# EAGLE library part MEM2051-00-195-00-A (library CONNECTORs)
Memory Socket, MEM2051 Series, Micro SD, 8 Contacts, Phosphor Bronze, Gold Plated Contacts
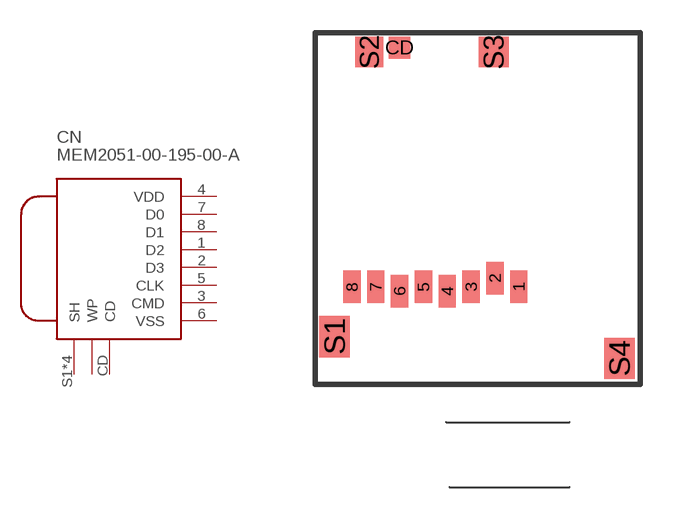
[diagram p28: symbol with the pads of MEM2051-00-195-00-A; footprint MEM2051-00-195-00-A]

Designator prefix CN

## MEM2051-00-195-00-A (FARNELL: 2443092; PRICE_PER: 1.47; VALUE: SD CARD)  [MEM2051-00-195-00-A]
1  D2
2  D3
3  CMD
4  VDD
5  CLK
6  VSS
7  D0
8  D1
CD  CD
S1  SH
S2  SH
S3  SH
S4  SH

## Footprint MEM2051-00-195-00-A (pad centres in mm)
smd 0.8 x 1.5: 1 1.9,-4.25; 2 0.8,-3.85; 3 -0.3,-4.25; 4 -1.4,-4.45; 5 -2.5,-4.25; 6 -3.6,-4.45; 7 -4.7,-4.25; 8 -5.8,-4.25
smd 1 x 1: CD -3.6,6.8
smd 1.4 x 1.9: S1 -6.6,-6.55; S4 6.55,-7.55
smd 1.3 x 1.4: S2 -5,6.6
smd 1.4 x 1.4: S3 0.75,6.6